# Altium integrated library TI Data Converters Digital to Analog Converter.IntLib: 1533 symbols (part 9 of 99)
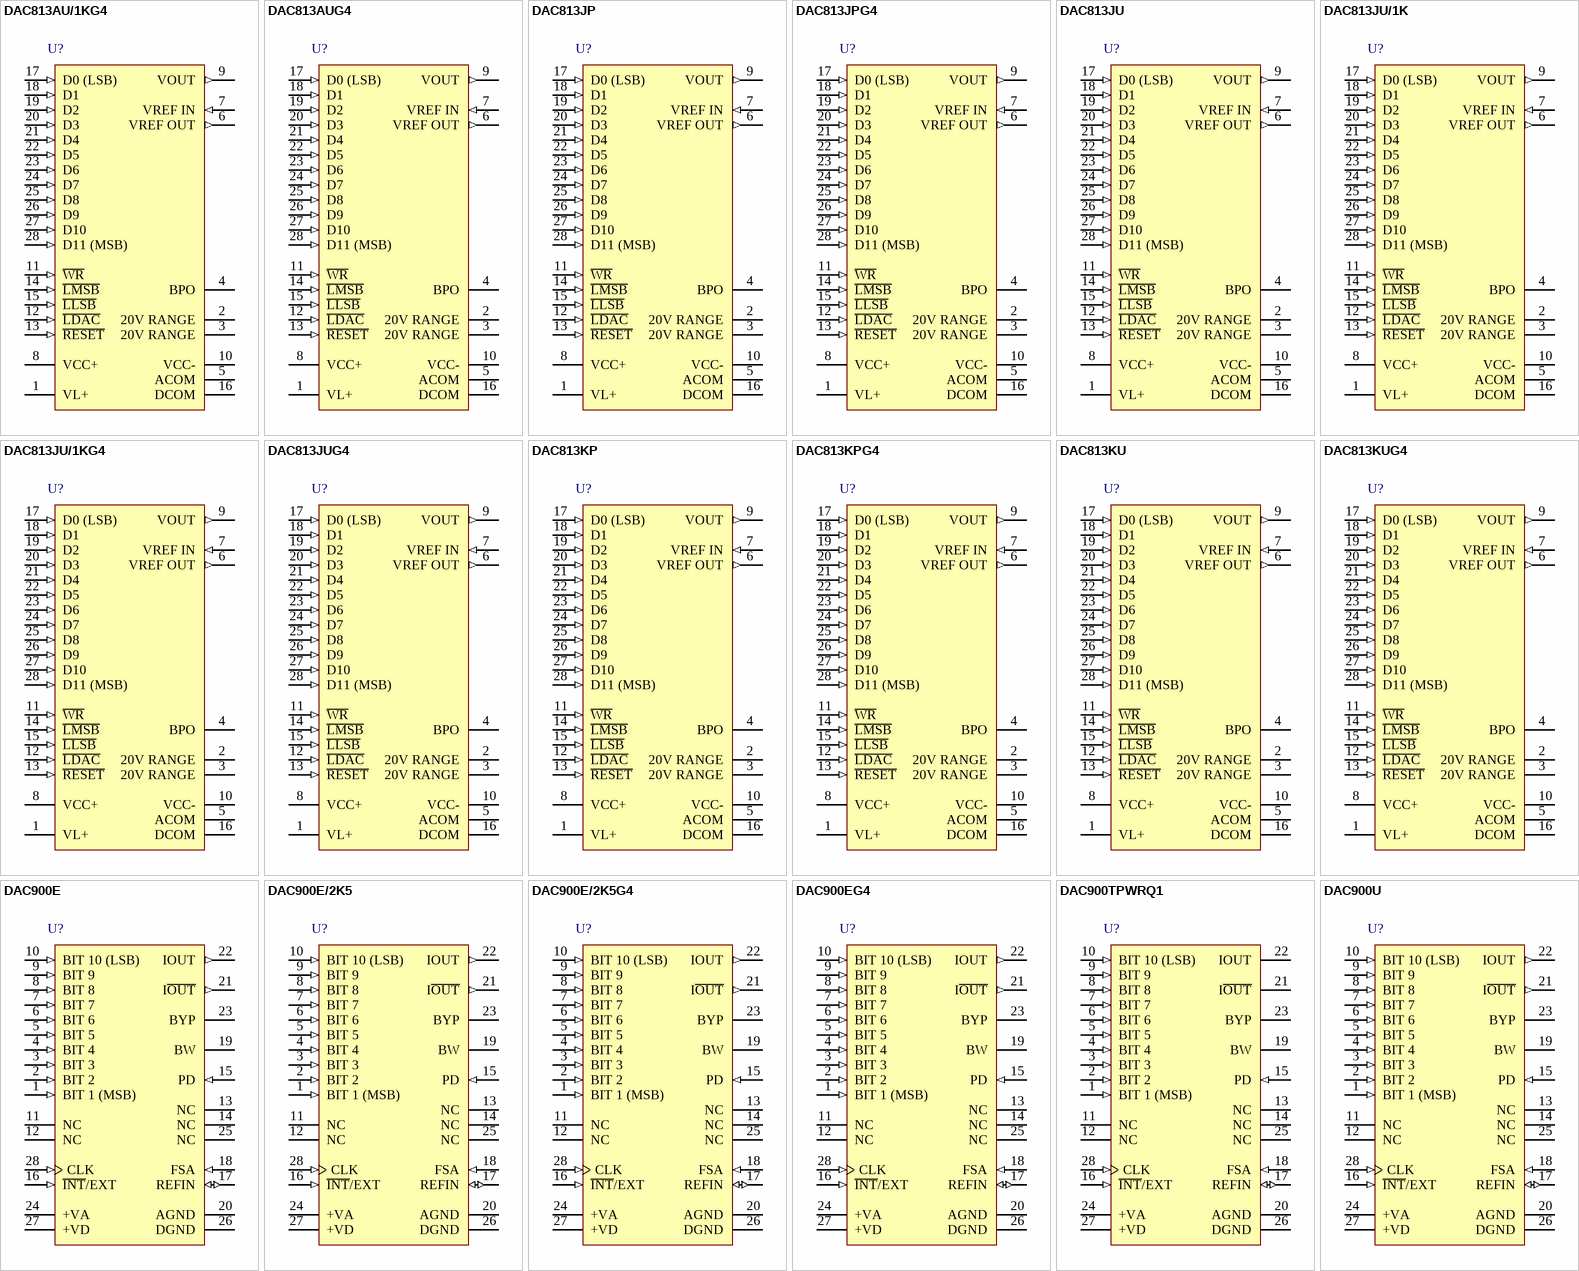
[diagram p81: symbols DAC813AU/1KG4 to DAC900U]

## DAC900U
designator U?
10-Bit, 165 MSPS SpeedPlus(TM) DAC Scalable Current Outputs between 2 to 20 mA, -40 to 85 degC, 28-pin SOIC (DW28), Green (RoHS & no Sb/Br); Manufacturer: Texas Instruments; PartNumber: DAC900U; DAC Channels: 1; DNL(Max)(+/-LSB): 0.5; Interface: Parallel CMOS; Power Consumption(Typ)(mW): 170; Resolution(Bits): 10; Settling Time(us): 0.03; SFDR(dB): 76; SubFamily: High Speed DAC (>10MSPS); DatasheetVersion: SBAS093B; PackageVersion: 4040000-6/G, 01/2011; PackageReference: DW28; PackageDescription: 28-Pin Plastic Small Outline, Body 17.90 x 7.50 mm, Pitch 1.27 mm; Supplier 1: Digi-Key; Supplier Part Number 1: DAC900U-ND; Supplier 2: Farnell; Supplier Part Number 2: 1247009; Supplier 3: Mouser; Supplier Part Number 3: 595-DAC900U; Eco-Plan: Green (RoHS & no Sb/Br); INL(Max)(+/-LSB): 1; Mounting Technology: Surface Mount; Code_JEDEC: MS-013; ComponentLink1Description: Manufacturer URL; ComponentLink1URL: http://www.ti.com/; ComponentLink2Description: Datasheet; ComponentLink2URL: http://www.ti.com/general/docs/lit/getliterature.tsp?genericPartNumber=DAC900&fileType=pdf; ComponentLink3Description: Package Specification; ComponentLink3URL: http://www.ti.com/lit/ml/mpds175a/mpds175a.pdf
footprint TI-DW28_N (SOIC, 28-Leads, Body 17.9x7.5mm, Pitch 1.27mm, IPC Medium Density)
footprint TI-DW28_L (SOIC, 28-Leads, Body 17.9x7.5mm, Pitch 1.27mm, IPC High Density)
footprint TI-DW28_M (SOIC, 28-Leads, Body 17.9x7.5mm, Pitch 1.27mm, IPC Low Density)
pins: 1 BIT 1 (MSB) (in) "Data Bit 1 (D9), MSB", 2 BIT 2 (in) "Data Bit 2 (D8)", 3 BIT 3 (in) "Data Bit 3 (D7)", 4 BIT 4 (in) "Data Bit 4 (D6)", 5 BIT 5 (in) "Data Bit 5 (D5)", 6 BIT 6 (in) "Data Bit 6 (D4)", 7 BIT 7 (in) "Data Bit 7 (D3)", 8 BIT 8 (in) "Data Bit 8 (D2)", 9 BIT 9 (in) "Data Bit 9 (D1)", 10 BIT 10 (LSB) (in) "Data Bit 10 (D0), LSB", 11 NC "No Connection", 12 NC "No Connection", 13 NC "No Connection", 14 NC "No Connection", 15 PD (in) "Power Down, Control Input; Active HIGH. Contains internal pull-down circuit; may be left unconnected if not used.", 16 ~{INT}/EXT (in) "Reference Select Pin; Internal ( = 0) or External ( = 1) Reference Operation.", 17 REFIN (io) "Reference Input/Ouput. See Applications section for further details.", 18 FSA (in) "Full-Scale Output Adjust", 19 BW "Bandwidth/Noise Reduction Pin: Bypass with 0.1uF to +VA  for Optimum Performance.", 20 AGND (power) "Analog Ground", 21 I~{OUT} (out) "Complementary DAC Current Output", 22 IOUT (out) "DAC Current Output", 23 BYP "Bypass Node: Use 0.1uF to AGND", 24 +VA (power) "Analog Supply Voltage, 2.7V to 5.5V", 25 NC "No Connection", 26 DGND (power) "Digital Ground", 27 +VD (power) "Digital Supply Voltage, 2.7V to 5.5V", 28 CLK (in) "Clock Input"

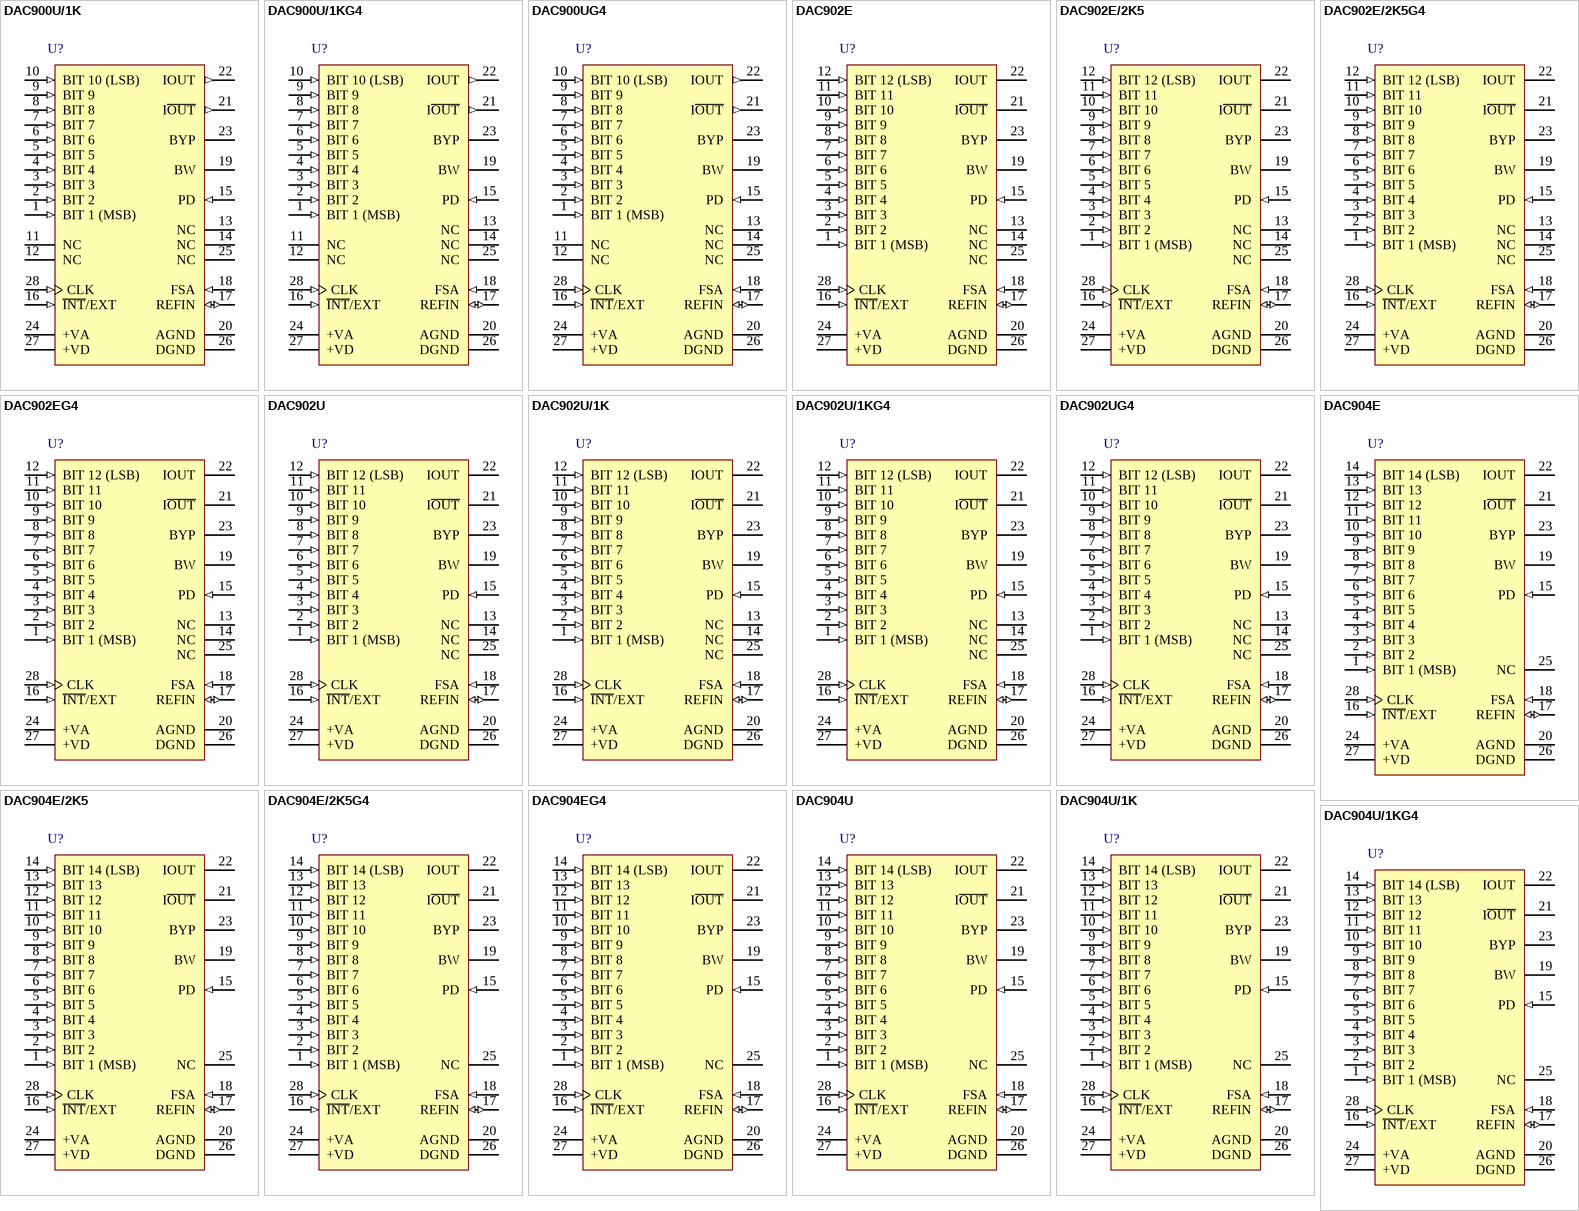
[diagram p7: symbols DAC900U/1K to DAC904U/1KG4]

## DAC900U/1K
designator U?
10-Bit, 165 MSPS SpeedPlus(TM) DAC Scalable Current Outputs between 2 to 20 mA, -40 to 85 degC, 28-pin SOIC (DW28), Green (RoHS & no Sb/Br); Manufacturer: Texas Instruments; PartNumber: DAC900U/1K; DAC Channels: 1; DNL(Max)(+/-LSB): 0.5; Interface: Parallel CMOS; Power Consumption(Typ)(mW): 170; Resolution(Bits): 10; Settling Time(us): 0.03; SFDR(dB): 76; SubFamily: High Speed DAC (>10MSPS); DatasheetVersion: SBAS093B; PackageVersion: 4040000-6/G, 01/2011; PackageReference: DW28; PackageDescription: 28-Pin Plastic Small Outline, Body 17.90 x 7.50 mm, Pitch 1.27 mm; Supplier 1: Digi-Key; Supplier Part Number 1: DAC900U/1K-ND; Supplier 2: Mouser; Supplier Part Number 2: 595-DAC900U/1K; Eco-Plan: Green (RoHS & no Sb/Br); INL(Max)(+/-LSB): 1; Mounting Technology: Surface Mount; Code_JEDEC: MS-013; ComponentLink1Description: Manufacturer URL; ComponentLink1URL: http://www.ti.com/; ComponentLink2Description: Datasheet; ComponentLink2URL: http://www.ti.com/general/docs/lit/getliterature.tsp?genericPartNumber=DAC900&fileType=pdf; ComponentLink3Description: Package Specification; ComponentLink3URL: http://www.ti.com/lit/ml/mpds175a/mpds175a.pdf
footprint TI-DW28_N (SOIC, 28-Leads, Body 17.9x7.5mm, Pitch 1.27mm, IPC Medium Density)
footprint TI-DW28_L (SOIC, 28-Leads, Body 17.9x7.5mm, Pitch 1.27mm, IPC High Density)
footprint TI-DW28_M (SOIC, 28-Leads, Body 17.9x7.5mm, Pitch 1.27mm, IPC Low Density)
pins: 1 BIT 1 (MSB) (in) "Data Bit 1 (D9), MSB", 2 BIT 2 (in) "Data Bit 2 (D8)", 3 BIT 3 (in) "Data Bit 3 (D7)", 4 BIT 4 (in) "Data Bit 4 (D6)", 5 BIT 5 (in) "Data Bit 5 (D5)", 6 BIT 6 (in) "Data Bit 6 (D4)", 7 BIT 7 (in) "Data Bit 7 (D3)", 8 BIT 8 (in) "Data Bit 8 (D2)", 9 BIT 9 (in) "Data Bit 9 (D1)", 10 BIT 10 (LSB) (in) "Data Bit 10 (D0), LSB", 11 NC "No Connection", 12 NC "No Connection", 13 NC "No Connection", 14 NC "No Connection", 15 PD (in) "Power Down, Control Input; Active HIGH. Contains internal pull-down circuit; may be left unconnected if not used.", 16 ~{INT}/EXT (in) "Reference Select Pin; Internal ( = 0) or External ( = 1) Reference Operation.", 17 REFIN (io) "Reference Input/Ouput. See Applications section for further details.", 18 FSA (in) "Full-Scale Output Adjust", 19 BW "Bandwidth/Noise Reduction Pin: Bypass with 0.1uF to +VA  for Optimum Performance.", 20 AGND (power) "Analog Ground", 21 I~{OUT} (out) "Complementary DAC Current Output", 22 IOUT (out) "DAC Current Output", 23 BYP "Bypass Node: Use 0.1uF to AGND", 24 +VA (power) "Analog Supply Voltage, 2.7V to 5.5V", 25 NC "No Connection", 26 DGND (power) "Digital Ground", 27 +VD (power) "Digital Supply Voltage, 2.7V to 5.5V", 28 CLK (in) "Clock Input"

## DAC900U/1KG4
designator U?
10-Bit, 165 MSPS SpeedPlus(TM) DAC Scalable Current Outputs between 2 to 20 mA, -40 to 85 degC, 28-pin SOIC (DW28), Green (RoHS & no Sb/Br); Manufacturer: Texas Instruments; PartNumber: DAC900U/1KG4; DAC Channels: 1; DNL(Max)(+/-LSB): 0.5; Interface: Parallel CMOS; Power Consumption(Typ)(mW): 170; Resolution(Bits): 10; Settling Time(us): 0.03; SFDR(dB): 76; SubFamily: High Speed DAC (>10MSPS); DatasheetVersion: SBAS093B; PackageVersion: 4040000-6/G, 01/2011; PackageReference: DW28; PackageDescription: 28-Pin Plastic Small Outline, Body 17.90 x 7.50 mm, Pitch 1.27 mm; Supplier 1: Digi-Key; Supplier Part Number 1: DAC900U/1KG4-ND; Supplier 2: Mouser; Supplier Part Number 2: 595-DAC900U/1KG4; Eco-Plan: Green (RoHS & no Sb/Br); INL(Max)(+/-LSB): 1; Mounting Technology: Surface Mount; Code_JEDEC: MS-013; ComponentLink1Description: Manufacturer URL; ComponentLink1URL: http://www.ti.com/; ComponentLink2Description: Datasheet; ComponentLink2URL: http://www.ti.com/general/docs/lit/getliterature.tsp?genericPartNumber=DAC900&fileType=pdf; ComponentLink3Description: Package Specification; ComponentLink3URL: http://www.ti.com/lit/ml/mpds175a/mpds175a.pdf
footprint TI-DW28_N (SOIC, 28-Leads, Body 17.9x7.5mm, Pitch 1.27mm, IPC Medium Density)
footprint TI-DW28_L (SOIC, 28-Leads, Body 17.9x7.5mm, Pitch 1.27mm, IPC High Density)
footprint TI-DW28_M (SOIC, 28-Leads, Body 17.9x7.5mm, Pitch 1.27mm, IPC Low Density)
pins: 1 BIT 1 (MSB) (in) "Data Bit 1 (D9), MSB", 2 BIT 2 (in) "Data Bit 2 (D8)", 3 BIT 3 (in) "Data Bit 3 (D7)", 4 BIT 4 (in) "Data Bit 4 (D6)", 5 BIT 5 (in) "Data Bit 5 (D5)", 6 BIT 6 (in) "Data Bit 6 (D4)", 7 BIT 7 (in) "Data Bit 7 (D3)", 8 BIT 8 (in) "Data Bit 8 (D2)", 9 BIT 9 (in) "Data Bit 9 (D1)", 10 BIT 10 (LSB) (in) "Data Bit 10 (D0), LSB", 11 NC "No Connection", 12 NC "No Connection", 13 NC "No Connection", 14 NC "No Connection", 15 PD (in) "Power Down, Control Input; Active HIGH. Contains internal pull-down circuit; may be left unconnected if not used.", 16 ~{INT}/EXT (in) "Reference Select Pin; Internal ( = 0) or External ( = 1) Reference Operation.", 17 REFIN (io) "Reference Input/Ouput. See Applications section for further details.", 18 FSA (in) "Full-Scale Output Adjust", 19 BW "Bandwidth/Noise Reduction Pin: Bypass with 0.1uF to +VA  for Optimum Performance.", 20 AGND (power) "Analog Ground", 21 I~{OUT} (out) "Complementary DAC Current Output", 22 IOUT (out) "DAC Current Output", 23 BYP "Bypass Node: Use 0.1uF to AGND", 24 +VA (power) "Analog Supply Voltage, 2.7V to 5.5V", 25 NC "No Connection", 26 DGND (power) "Digital Ground", 27 +VD (power) "Digital Supply Voltage, 2.7V to 5.5V", 28 CLK (in) "Clock Input"

## DAC900UG4
designator U?
10-Bit, 165 MSPS SpeedPlus(TM) DAC Scalable Current Outputs between 2 to 20 mA, -40 to 85 degC, 28-pin SOIC (DW28), Green (RoHS & no Sb/Br); Manufacturer: Texas Instruments; PartNumber: DAC900UG4; DAC Channels: 1; DNL(Max)(+/-LSB): 0.5; Interface: Parallel CMOS; Power Consumption(Typ)(mW): 170; Resolution(Bits): 10; Settling Time(us): 0.03; SFDR(dB): 76; SubFamily: High Speed DAC (>10MSPS); DatasheetVersion: SBAS093B; PackageVersion: 4040000-6/G, 01/2011; PackageReference: DW28; PackageDescription: 28-Pin Plastic Small Outline, Body 17.90 x 7.50 mm, Pitch 1.27 mm; Supplier 1: Digi-Key; Supplier Part Number 1: DAC900UG4-ND; Supplier 2: Mouser; Supplier Part Number 2: 595-DAC900UG4; Eco-Plan: Green (RoHS & no Sb/Br); INL(Max)(+/-LSB): 1; Mounting Technology: Surface Mount; Code_JEDEC: MS-013; ComponentLink1Description: Manufacturer URL; ComponentLink1URL: http://www.ti.com/; ComponentLink2Description: Datasheet; ComponentLink2URL: http://www.ti.com/general/docs/lit/getliterature.tsp?genericPartNumber=DAC900&fileType=pdf; ComponentLink3Description: Package Specification; ComponentLink3URL: http://www.ti.com/lit/ml/mpds175a/mpds175a.pdf
footprint TI-DW28_N (SOIC, 28-Leads, Body 17.9x7.5mm, Pitch 1.27mm, IPC Medium Density)
footprint TI-DW28_L (SOIC, 28-Leads, Body 17.9x7.5mm, Pitch 1.27mm, IPC High Density)
footprint TI-DW28_M (SOIC, 28-Leads, Body 17.9x7.5mm, Pitch 1.27mm, IPC Low Density)
pins: 1 BIT 1 (MSB) (in) "Data Bit 1 (D9), MSB", 2 BIT 2 (in) "Data Bit 2 (D8)", 3 BIT 3 (in) "Data Bit 3 (D7)", 4 BIT 4 (in) "Data Bit 4 (D6)", 5 BIT 5 (in) "Data Bit 5 (D5)", 6 BIT 6 (in) "Data Bit 6 (D4)", 7 BIT 7 (in) "Data Bit 7 (D3)", 8 BIT 8 (in) "Data Bit 8 (D2)", 9 BIT 9 (in) "Data Bit 9 (D1)", 10 BIT 10 (LSB) (in) "Data Bit 10 (D0), LSB", 11 NC "No Connection", 12 NC "No Connection", 13 NC "No Connection", 14 NC "No Connection", 15 PD (in) "Power Down, Control Input; Active HIGH. Contains internal pull-down circuit; may be left unconnected if not used.", 16 ~{INT}/EXT (in) "Reference Select Pin; Internal ( = 0) or External ( = 1) Reference Operation.", 17 REFIN (io) "Reference Input/Ouput. See Applications section for further details.", 18 FSA (in) "Full-Scale Output Adjust", 19 BW "Bandwidth/Noise Reduction Pin: Bypass with 0.1uF to +VA  for Optimum Performance.", 20 AGND (power) "Analog Ground", 21 I~{OUT} (out) "Complementary DAC Current Output", 22 IOUT (out) "DAC Current Output", 23 BYP "Bypass Node: Use 0.1uF to AGND", 24 +VA (power) "Analog Supply Voltage, 2.7V to 5.5V", 25 NC "No Connection", 26 DGND (power) "Digital Ground", 27 +VD (power) "Digital Supply Voltage, 2.7V to 5.5V", 28 CLK (in) "Clock Input"

## DAC902E
designator U?
12-Bit, 165 MSPS SpeedPlus(TM) DAC Scalable Current Outputs between 2 to 20 mA, -40 to 85 degC, 28-pin SOP (PW28), Green (RoHS & no Sb/Br); Manufacturer: Texas Instruments; PartNumber: DAC902E; DAC Channels: 1; DNL(Max)(+/-LSB): 1.75; INL(Max)(+/-LSB): 2.5; Interface: Parallel CMOS; Power Consumption(Typ)(mW): 170; Resolution(Bits): 12; Settling Time(us): 0.03; SFDR(dB): 75; SubFamily: High Speed DAC (>10MSPS); DatasheetVersion: SBAS094B; PackageVersion: 4040064-7/G, 02/2011; PackageReference: PW28; PackageDescription: 28-Pin Plastic Small Outline, Body 9.7 x 4.4 mm, Pitch 0.65 mm; Supplier 1: Digi-Key; Supplier Part Number 1: DAC902E-ND; Supplier 2: Newark; Supplier Part Number 2: 35C1668; Supplier 3: Mouser; Supplier Part Number 3: 595-DAC902E; Eco-Plan: Green (RoHS & no Sb/Br); Mounting Technology: Surface Mount; Code_JEDEC: MO-153; ComponentLink1Description: Manufacturer URL; ComponentLink1URL: http://www.ti.com/; ComponentLink2Description: Datasheet; ComponentLink2URL: http://www.ti.com/general/docs/lit/getliterature.tsp?genericPartNumber=DAC902&fileType=pdf; ComponentLink3Description: Package Specification; ComponentLink3URL: http://www.ti.com/litv/pdf/mpds364
footprint TI-PW28_N (SOP, 28-Leads, Body 9.7x4.4mm, Pitch 0.65mm, IPC Medium Density)
footprint TI-PW28_L (SOP, 28-Leads, Body 9.7x4.4mm, Pitch 0.65mm, IPC High Density)
footprint TI-PW28_M (SOP, 28-Leads, Body 9.7x4.4mm, Pitch 0.65mm, IPC Low Density)
pins: 1 BIT 1 (MSB) (in) "Data Bit 1 (D11), MSB", 2 BIT 2 (in) "Data Bit 2 (D10)", 3 BIT 3 (in) "Data Bit 3 (D9)", 4 BIT 4 (in) "Data Bit 4 (D8)", 5 BIT 5 (in) "Data Bit 5 (D7)", 6 BIT 6 (in) "Data Bit 6 (D6)", 7 BIT 7 (in) "Data Bit 7 (D5)", 8 BIT 8 (in) "Data Bit 8 (D4)", 9 BIT 9 (in) "Data Bit 9 (D3)", 10 BIT 10 (in) "Data Bit 10 (D2)", 11 BIT 11 (in) "Data Bit 11 (D1)", 12 BIT 12 (LSB) (in) "Data Bit 12 (D0), LSB", 13 NC "No Connection", 14 NC "No Connection", 15 PD (in) "Power Down, Control Input; Active HIGH. Contains internal pull-down circuit; may be left unconnected if not used.", 16 ~{INT}/EXT (in) "Reference Select Pin; Internal ( = 0) or External ( = 1) Reference Operation.", 17 REFIN (io) "Reference Input/Ouput. See Applications section for further details.", 18 FSA (in) "Full-Scale Output Adjust", 19 BW "Bandwidth/Noise Reduction Pin: Bypass with 0.1uF to +VA for Optimum Performance.", 20 AGND (power) "Analog Ground", 21 I~{OUT} (hiz) "Complementary DAC Current Output", 22 IOUT (hiz) "DAC Current Output", 23 BYP "Bypass Node: Use 0.1uF to AGND", 24 +VA (power) "Analog Supply Voltage, 2.7V to 5.5V", 25 NC "No Connection", 26 DGND (power) "Digital Ground", 27 +VD (power) "Digital Supply Voltage, 2.7V to 5.5V", 28 CLK (in) "Clock Input"

## DAC902E/2K5
designator U?
12-Bit, 165 MSPS SpeedPlus(TM) DAC Scalable Current Outputs between 2 to 20 mA, -40 to 85 degC, 28-pin SOP (PW28), Green (RoHS & no Sb/Br); Manufacturer: Texas Instruments; PartNumber: DAC902E/2K5; DAC Channels: 1; DNL(Max)(+/-LSB): 1.75; INL(Max)(+/-LSB): 2.5; Interface: Parallel CMOS; Power Consumption(Typ)(mW): 170; Resolution(Bits): 12; Settling Time(us): 0.03; SFDR(dB): 75; SubFamily: High Speed DAC (>10MSPS); DatasheetVersion: SBAS094B; PackageVersion: 4040064-7/G, 02/2011; PackageReference: PW28; PackageDescription: 28-Pin Plastic Small Outline, Body 9.7 x 4.4 mm, Pitch 0.65 mm; Supplier 1: Digi-Key; Supplier Part Number 1: DAC902E/2K5-ND; Supplier 2: Mouser; Supplier Part Number 2: 595-DAC902E/2K5; Eco-Plan: Green (RoHS & no Sb/Br); Mounting Technology: Surface Mount; Code_JEDEC: MO-153; ComponentLink1Description: Manufacturer URL; ComponentLink1URL: http://www.ti.com/; ComponentLink2Description: Datasheet; ComponentLink2URL: http://www.ti.com/general/docs/lit/getliterature.tsp?genericPartNumber=DAC902&fileType=pdf; ComponentLink3Description: Package Specification; ComponentLink3URL: http://www.ti.com/litv/pdf/mpds364
footprint TI-PW28_N (SOP, 28-Leads, Body 9.7x4.4mm, Pitch 0.65mm, IPC Medium Density)
footprint TI-PW28_L (SOP, 28-Leads, Body 9.7x4.4mm, Pitch 0.65mm, IPC High Density)
footprint TI-PW28_M (SOP, 28-Leads, Body 9.7x4.4mm, Pitch 0.65mm, IPC Low Density)
pins: 1 BIT 1 (MSB) (in) "Data Bit 1 (D11), MSB", 2 BIT 2 (in) "Data Bit 2 (D10)", 3 BIT 3 (in) "Data Bit 3 (D9)", 4 BIT 4 (in) "Data Bit 4 (D8)", 5 BIT 5 (in) "Data Bit 5 (D7)", 6 BIT 6 (in) "Data Bit 6 (D6)", 7 BIT 7 (in) "Data Bit 7 (D5)", 8 BIT 8 (in) "Data Bit 8 (D4)", 9 BIT 9 (in) "Data Bit 9 (D3)", 10 BIT 10 (in) "Data Bit 10 (D2)", 11 BIT 11 (in) "Data Bit 11 (D1)", 12 BIT 12 (LSB) (in) "Data Bit 12 (D0), LSB", 13 NC "No Connection", 14 NC "No Connection", 15 PD (in) "Power Down, Control Input; Active HIGH. Contains internal pull-down circuit; may be left unconnected if not used.", 16 ~{INT}/EXT (in) "Reference Select Pin; Internal ( = 0) or External ( = 1) Reference Operation.", 17 REFIN (io) "Reference Input/Ouput. See Applications section for further details.", 18 FSA (in) "Full-Scale Output Adjust", 19 BW "Bandwidth/Noise Reduction Pin: Bypass with 0.1uF to +VA for Optimum Performance.", 20 AGND (power) "Analog Ground", 21 I~{OUT} (hiz) "Complementary DAC Current Output", 22 IOUT (hiz) "DAC Current Output", 23 BYP "Bypass Node: Use 0.1uF to AGND", 24 +VA (power) "Analog Supply Voltage, 2.7V to 5.5V", 25 NC "No Connection", 26 DGND (power) "Digital Ground", 27 +VD (power) "Digital Supply Voltage, 2.7V to 5.5V", 28 CLK (in) "Clock Input"

## DAC902E/2K5G4
designator U?
12-Bit, 165 MSPS SpeedPlus(TM) DAC Scalable Current Outputs between 2 to 20 mA, -40 to 85 degC, 28-pin SOP (PW28), Green (RoHS & no Sb/Br); Manufacturer: Texas Instruments; PartNumber: DAC902E/2K5G4; DAC Channels: 1; DNL(Max)(+/-LSB): 1.75; INL(Max)(+/-LSB): 2.5; Interface: Parallel CMOS; Power Consumption(Typ)(mW): 170; Resolution(Bits): 12; Settling Time(us): 0.03; SFDR(dB): 75; SubFamily: High Speed DAC (>10MSPS); DatasheetVersion: SBAS094B; PackageVersion: 4040064-7/G, 02/2011; PackageReference: PW28; PackageDescription: 28-Pin Plastic Small Outline, Body 9.7 x 4.4 mm, Pitch 0.65 mm; Supplier 1: Digi-Key; Supplier Part Number 1: DAC902E/2K5G4-ND; Supplier 2: Mouser; Supplier Part Number 2: 595-DAC902E/2K5G4; Eco-Plan: Green (RoHS & no Sb/Br); Mounting Technology: Surface Mount; Code_JEDEC: MO-153; ComponentLink1Description: Manufacturer URL; ComponentLink1URL: http://www.ti.com/; ComponentLink2Description: Datasheet; ComponentLink2URL: http://www.ti.com/general/docs/lit/getliterature.tsp?genericPartNumber=DAC902&fileType=pdf; ComponentLink3Description: Package Specification; ComponentLink3URL: http://www.ti.com/litv/pdf/mpds364
footprint TI-PW28_N (SOP, 28-Leads, Body 9.7x4.4mm, Pitch 0.65mm, IPC Medium Density)
footprint TI-PW28_L (SOP, 28-Leads, Body 9.7x4.4mm, Pitch 0.65mm, IPC High Density)
footprint TI-PW28_M (SOP, 28-Leads, Body 9.7x4.4mm, Pitch 0.65mm, IPC Low Density)
pins: 1 BIT 1 (MSB) (in) "Data Bit 1 (D11), MSB", 2 BIT 2 (in) "Data Bit 2 (D10)", 3 BIT 3 (in) "Data Bit 3 (D9)", 4 BIT 4 (in) "Data Bit 4 (D8)", 5 BIT 5 (in) "Data Bit 5 (D7)", 6 BIT 6 (in) "Data Bit 6 (D6)", 7 BIT 7 (in) "Data Bit 7 (D5)", 8 BIT 8 (in) "Data Bit 8 (D4)", 9 BIT 9 (in) "Data Bit 9 (D3)", 10 BIT 10 (in) "Data Bit 10 (D2)", 11 BIT 11 (in) "Data Bit 11 (D1)", 12 BIT 12 (LSB) (in) "Data Bit 12 (D0), LSB", 13 NC "No Connection", 14 NC "No Connection", 15 PD (in) "Power Down, Control Input; Active HIGH. Contains internal pull-down circuit; may be left unconnected if not used.", 16 ~{INT}/EXT (in) "Reference Select Pin; Internal ( = 0) or External ( = 1) Reference Operation.", 17 REFIN (io) "Reference Input/Ouput. See Applications section for further details.", 18 FSA (in) "Full-Scale Output Adjust", 19 BW "Bandwidth/Noise Reduction Pin: Bypass with 0.1uF to +VA for Optimum Performance.", 20 AGND (power) "Analog Ground", 21 I~{OUT} (hiz) "Complementary DAC Current Output", 22 IOUT (hiz) "DAC Current Output", 23 BYP "Bypass Node: Use 0.1uF to AGND", 24 +VA (power) "Analog Supply Voltage, 2.7V to 5.5V", 25 NC "No Connection", 26 DGND (power) "Digital Ground", 27 +VD (power) "Digital Supply Voltage, 2.7V to 5.5V", 28 CLK (in) "Clock Input"

## DAC902EG4
designator U?
12-Bit, 165 MSPS SpeedPlus(TM) DAC Scalable Current Outputs between 2 to 20 mA, -40 to 85 degC, 28-pin SOP (PW28), Green (RoHS & no Sb/Br); Manufacturer: Texas Instruments; PartNumber: DAC902EG4; DAC Channels: 1; DNL(Max)(+/-LSB): 1.75; INL(Max)(+/-LSB): 2.5; Interface: Parallel CMOS; Power Consumption(Typ)(mW): 170; Resolution(Bits): 12; Settling Time(us): 0.03; SFDR(dB): 75; SubFamily: High Speed DAC (>10MSPS); DatasheetVersion: SBAS094B; PackageVersion: 4040064-7/G, 02/2011; PackageReference: PW28; PackageDescription: 28-Pin Plastic Small Outline, Body 9.7 x 4.4 mm, Pitch 0.65 mm; Supplier 1: Digi-Key; Supplier Part Number 1: DAC902EG4-ND; Supplier 2: Newark; Supplier Part Number 2: 24K4542; Supplier 3: Mouser; Supplier Part Number 3: 595-DAC902EG4; Eco-Plan: Green (RoHS & no Sb/Br); Mounting Technology: Surface Mount; Code_JEDEC: MO-153; ComponentLink1Description: Manufacturer URL; ComponentLink1URL: http://www.ti.com/; ComponentLink2Description: Datasheet; ComponentLink2URL: http://www.ti.com/general/docs/lit/getliterature.tsp?genericPartNumber=DAC902&fileType=pdf; ComponentLink3Description: Package Specification; ComponentLink3URL: http://www.ti.com/litv/pdf/mpds364
footprint TI-PW28_N (SOP, 28-Leads, Body 9.7x4.4mm, Pitch 0.65mm, IPC Medium Density)
footprint TI-PW28_L (SOP, 28-Leads, Body 9.7x4.4mm, Pitch 0.65mm, IPC High Density)
footprint TI-PW28_M (SOP, 28-Leads, Body 9.7x4.4mm, Pitch 0.65mm, IPC Low Density)
pins: 1 BIT 1 (MSB) (in) "Data Bit 1 (D11), MSB", 2 BIT 2 (in) "Data Bit 2 (D10)", 3 BIT 3 (in) "Data Bit 3 (D9)", 4 BIT 4 (in) "Data Bit 4 (D8)", 5 BIT 5 (in) "Data Bit 5 (D7)", 6 BIT 6 (in) "Data Bit 6 (D6)", 7 BIT 7 (in) "Data Bit 7 (D5)", 8 BIT 8 (in) "Data Bit 8 (D4)", 9 BIT 9 (in) "Data Bit 9 (D3)", 10 BIT 10 (in) "Data Bit 10 (D2)", 11 BIT 11 (in) "Data Bit 11 (D1)", 12 BIT 12 (LSB) (in) "Data Bit 12 (D0), LSB", 13 NC "No Connection", 14 NC "No Connection", 15 PD (in) "Power Down, Control Input; Active HIGH. Contains internal pull-down circuit; may be left unconnected if not used.", 16 ~{INT}/EXT (in) "Reference Select Pin; Internal ( = 0) or External ( = 1) Reference Operation.", 17 REFIN (io) "Reference Input/Ouput. See Applications section for further details.", 18 FSA (in) "Full-Scale Output Adjust", 19 BW "Bandwidth/Noise Reduction Pin: Bypass with 0.1uF to +VA for Optimum Performance.", 20 AGND (power) "Analog Ground", 21 I~{OUT} (hiz) "Complementary DAC Current Output", 22 IOUT (hiz) "DAC Current Output", 23 BYP "Bypass Node: Use 0.1uF to AGND", 24 +VA (power) "Analog Supply Voltage, 2.7V to 5.5V", 25 NC "No Connection", 26 DGND (power) "Digital Ground", 27 +VD (power) "Digital Supply Voltage, 2.7V to 5.5V", 28 CLK (in) "Clock Input"

## DAC902U
designator U?
12-Bit, 165 MSPS SpeedPlus(TM) DAC Scalable Current Outputs between 2 to 20 mA, -40 to 85 degC, 28-pin SOIC (DW28), Green (RoHS & no Sb/Br); Manufacturer: Texas Instruments; PartNumber: DAC902U; DAC Channels: 1; DNL(Max)(+/-LSB): 1.75; INL(Max)(+/-LSB): 2.5; Interface: Parallel CMOS; Power Consumption(Typ)(mW): 170; Resolution(Bits): 12; Settling Time(us): 0.03; SFDR(dB): 75; SubFamily: High Speed DAC (>10MSPS); DatasheetVersion: SBAS094B; PackageVersion: 4040000-6/G, 01/2011; PackageReference: DW28; PackageDescription: 28-Pin Plastic Small Outline, Body 17.90 x 7.50 mm, Pitch 1.27 mm; Supplier 1: Digi-Key; Supplier Part Number 1: DAC902U-ND; Supplier 2: Farnell; Supplier Part Number 2: 8466289; Supplier 3: Newark; Supplier Part Number 3: 14M8164; Supplier 4: Mouser; Supplier Part Number 4: 595-DAC902U; Eco-Plan: Green (RoHS & no Sb/Br); Mounting Technology: Surface Mount; Code_JEDEC: MS-013; ComponentLink1Description: Manufacturer URL; ComponentLink1URL: http://www.ti.com/; ComponentLink2Description: Datasheet; ComponentLink2URL: http://www.ti.com/general/docs/lit/getliterature.tsp?genericPartNumber=DAC902&fileType=pdf; ComponentLink3Description: Package Specification; ComponentLink3URL: http://www.ti.com/lit/ml/mpds175a/mpds175a.pdf
footprint TI-DW28_N (SOIC, 28-Leads, Body 17.9x7.5mm, Pitch 1.27mm, IPC Medium Density)
footprint TI-DW28_L (SOIC, 28-Leads, Body 17.9x7.5mm, Pitch 1.27mm, IPC High Density)
footprint TI-DW28_M (SOIC, 28-Leads, Body 17.9x7.5mm, Pitch 1.27mm, IPC Low Density)
pins: 1 BIT 1 (MSB) (in) "Data Bit 1 (D11), MSB", 2 BIT 2 (in) "Data Bit 2 (D10)", 3 BIT 3 (in) "Data Bit 3 (D9)", 4 BIT 4 (in) "Data Bit 4 (D8)", 5 BIT 5 (in) "Data Bit 5 (D7)", 6 BIT 6 (in) "Data Bit 6 (D6)", 7 BIT 7 (in) "Data Bit 7 (D5)", 8 BIT 8 (in) "Data Bit 8 (D4)", 9 BIT 9 (in) "Data Bit 9 (D3)", 10 BIT 10 (in) "Data Bit 10 (D2)", 11 BIT 11 (in) "Data Bit 11 (D1)", 12 BIT 12 (LSB) (in) "Data Bit 12 (D0), LSB", 13 NC "No Connection", 14 NC "No Connection", 15 PD (in) "Power Down, Control Input; Active HIGH. Contains internal pull-down circuit; may be left unconnected if not used.", 16 ~{INT}/EXT (in) "Reference Select Pin; Internal ( = 0) or External ( = 1) Reference Operation.", 17 REFIN (io) "Reference Input/Ouput. See Applications section for further details.", 18 FSA (in) "Full-Scale Output Adjust", 19 BW "Bandwidth/Noise Reduction Pin: Bypass with 0.1uF to +VA for Optimum Performance.", 20 AGND (power) "Analog Ground", 21 I~{OUT} (hiz) "Complementary DAC Current Output", 22 IOUT (hiz) "DAC Current Output", 23 BYP "Bypass Node: Use 0.1uF to AGND", 24 +VA (power) "Analog Supply Voltage, 2.7V to 5.5V", 25 NC "No Connection", 26 DGND (power) "Digital Ground", 27 +VD (power) "Digital Supply Voltage, 2.7V to 5.5V", 28 CLK (in) "Clock Input"

## DAC902U/1K
designator U?
12-Bit, 165 MSPS SpeedPlus(TM) DAC Scalable Current Outputs between 2 to 20 mA, -40 to 85 degC, 28-pin SOIC (DW28), Green (RoHS & no Sb/Br); Manufacturer: Texas Instruments; PartNumber: DAC902U/1K; DAC Channels: 1; DNL(Max)(+/-LSB): 1.75; INL(Max)(+/-LSB): 2.5; Interface: Parallel CMOS; Power Consumption(Typ)(mW): 170; Resolution(Bits): 12; Settling Time(us): 0.03; SFDR(dB): 75; SubFamily: High Speed DAC (>10MSPS); DatasheetVersion: SBAS094B; PackageVersion: 4040000-6/G, 01/2011; PackageReference: DW28; PackageDescription: 28-Pin Plastic Small Outline, Body 17.90 x 7.50 mm, Pitch 1.27 mm; Supplier 1: Digi-Key; Supplier Part Number 1: DAC902U/1K-ND; Supplier 2: Mouser; Supplier Part Number 2: 595-DAC902U/1K; Eco-Plan: Green (RoHS & no Sb/Br); Mounting Technology: Surface Mount; Code_JEDEC: MS-013; ComponentLink1Description: Manufacturer URL; ComponentLink1URL: http://www.ti.com/; ComponentLink2Description: Datasheet; ComponentLink2URL: http://www.ti.com/general/docs/lit/getliterature.tsp?genericPartNumber=DAC902&fileType=pdf; ComponentLink3Description: Package Specification; ComponentLink3URL: http://www.ti.com/lit/ml/mpds175a/mpds175a.pdf
footprint TI-DW28_N (SOIC, 28-Leads, Body 17.9x7.5mm, Pitch 1.27mm, IPC Medium Density)
footprint TI-DW28_L (SOIC, 28-Leads, Body 17.9x7.5mm, Pitch 1.27mm, IPC High Density)
footprint TI-DW28_M (SOIC, 28-Leads, Body 17.9x7.5mm, Pitch 1.27mm, IPC Low Density)
pins: 1 BIT 1 (MSB) (in) "Data Bit 1 (D11), MSB", 2 BIT 2 (in) "Data Bit 2 (D10)", 3 BIT 3 (in) "Data Bit 3 (D9)", 4 BIT 4 (in) "Data Bit 4 (D8)", 5 BIT 5 (in) "Data Bit 5 (D7)", 6 BIT 6 (in) "Data Bit 6 (D6)", 7 BIT 7 (in) "Data Bit 7 (D5)", 8 BIT 8 (in) "Data Bit 8 (D4)", 9 BIT 9 (in) "Data Bit 9 (D3)", 10 BIT 10 (in) "Data Bit 10 (D2)", 11 BIT 11 (in) "Data Bit 11 (D1)", 12 BIT 12 (LSB) (in) "Data Bit 12 (D0), LSB", 13 NC "No Connection", 14 NC "No Connection", 15 PD (in) "Power Down, Control Input; Active HIGH. Contains internal pull-down circuit; may be left unconnected if not used.", 16 ~{INT}/EXT (in) "Reference Select Pin; Internal ( = 0) or External ( = 1) Reference Operation.", 17 REFIN (io) "Reference Input/Ouput. See Applications section for further details.", 18 FSA (in) "Full-Scale Output Adjust", 19 BW "Bandwidth/Noise Reduction Pin: Bypass with 0.1uF to +VA for Optimum Performance.", 20 AGND (power) "Analog Ground", 21 I~{OUT} (hiz) "Complementary DAC Current Output", 22 IOUT (hiz) "DAC Current Output", 23 BYP "Bypass Node: Use 0.1uF to AGND", 24 +VA (power) "Analog Supply Voltage, 2.7V to 5.5V", 25 NC "No Connection", 26 DGND (power) "Digital Ground", 27 +VD (power) "Digital Supply Voltage, 2.7V to 5.5V", 28 CLK (in) "Clock Input"

## DAC902U/1KG4
designator U?
12-Bit, 165 MSPS SpeedPlus(TM) DAC Scalable Current Outputs between 2 to 20 mA, -40 to 85 degC, 28-pin SOIC (DW28), Green (RoHS & no Sb/Br); Manufacturer: Texas Instruments; PartNumber: DAC902U/1KG4; DAC Channels: 1; DNL(Max)(+/-LSB): 1.75; INL(Max)(+/-LSB): 2.5; Interface: Parallel CMOS; Power Consumption(Typ)(mW): 170; Resolution(Bits): 12; Settling Time(us): 0.03; SFDR(dB): 75; SubFamily: High Speed DAC (>10MSPS); DatasheetVersion: SBAS094B; PackageVersion: 4040000-6/G, 01/2011; PackageReference: DW28; PackageDescription: 28-Pin Plastic Small Outline, Body 17.90 x 7.50 mm, Pitch 1.27 mm; Supplier 1: Digi-Key; Supplier Part Number 1: DAC902U/1KG4-ND; Supplier 2: Mouser; Supplier Part Number 2: 595-DAC902U/1KG4; Eco-Plan: Green (RoHS & no Sb/Br); Mounting Technology: Surface Mount; Code_JEDEC: MS-013; ComponentLink1Description: Manufacturer URL; ComponentLink1URL: http://www.ti.com/; ComponentLink2Description: Datasheet; ComponentLink2URL: http://www.ti.com/general/docs/lit/getliterature.tsp?genericPartNumber=DAC902&fileType=pdf; ComponentLink3Description: Package Specification; ComponentLink3URL: http://www.ti.com/lit/ml/mpds175a/mpds175a.pdf
footprint TI-DW28_N (SOIC, 28-Leads, Body 17.9x7.5mm, Pitch 1.27mm, IPC Medium Density)
footprint TI-DW28_L (SOIC, 28-Leads, Body 17.9x7.5mm, Pitch 1.27mm, IPC High Density)
footprint TI-DW28_M (SOIC, 28-Leads, Body 17.9x7.5mm, Pitch 1.27mm, IPC Low Density)
pins: 1 BIT 1 (MSB) (in) "Data Bit 1 (D11), MSB", 2 BIT 2 (in) "Data Bit 2 (D10)", 3 BIT 3 (in) "Data Bit 3 (D9)", 4 BIT 4 (in) "Data Bit 4 (D8)", 5 BIT 5 (in) "Data Bit 5 (D7)", 6 BIT 6 (in) "Data Bit 6 (D6)", 7 BIT 7 (in) "Data Bit 7 (D5)", 8 BIT 8 (in) "Data Bit 8 (D4)", 9 BIT 9 (in) "Data Bit 9 (D3)", 10 BIT 10 (in) "Data Bit 10 (D2)", 11 BIT 11 (in) "Data Bit 11 (D1)", 12 BIT 12 (LSB) (in) "Data Bit 12 (D0), LSB", 13 NC "No Connection", 14 NC "No Connection", 15 PD (in) "Power Down, Control Input; Active HIGH. Contains internal pull-down circuit; may be left unconnected if not used.", 16 ~{INT}/EXT (in) "Reference Select Pin; Internal ( = 0) or External ( = 1) Reference Operation.", 17 REFIN (io) "Reference Input/Ouput. See Applications section for further details.", 18 FSA (in) "Full-Scale Output Adjust", 19 BW "Bandwidth/Noise Reduction Pin: Bypass with 0.1uF to +VA for Optimum Performance.", 20 AGND (power) "Analog Ground", 21 I~{OUT} (hiz) "Complementary DAC Current Output", 22 IOUT (hiz) "DAC Current Output", 23 BYP "Bypass Node: Use 0.1uF to AGND", 24 +VA (power) "Analog Supply Voltage, 2.7V to 5.5V", 25 NC "No Connection", 26 DGND (power) "Digital Ground", 27 +VD (power) "Digital Supply Voltage, 2.7V to 5.5V", 28 CLK (in) "Clock Input"

## DAC902UG4
designator U?
12-Bit, 165 MSPS SpeedPlus(TM) DAC Scalable Current Outputs between 2 to 20 mA, -40 to 85 degC, 28-pin SOIC (DW28), Green (RoHS & no Sb/Br); Manufacturer: Texas Instruments; PartNumber: DAC902UG4; DAC Channels: 1; DNL(Max)(+/-LSB): 1.75; INL(Max)(+/-LSB): 2.5; Interface: Parallel CMOS; Power Consumption(Typ)(mW): 170; Resolution(Bits): 12; Settling Time(us): 0.03; SFDR(dB): 75; SubFamily: High Speed DAC (>10MSPS); DatasheetVersion: SBAS094B; PackageVersion: 4040000-6/G, 01/2011; PackageReference: DW28; PackageDescription: 28-Pin Plastic Small Outline, Body 17.90 x 7.50 mm, Pitch 1.27 mm; Supplier 1: Digi-Key; Supplier Part Number 1: DAC902UG4-ND; Supplier 2: Mouser; Supplier Part Number 2: 595-DAC902UG4; Eco-Plan: Green (RoHS & no Sb/Br); Mounting Technology: Surface Mount; Code_JEDEC: MS-013; ComponentLink1Description: Manufacturer URL; ComponentLink1URL: http://www.ti.com/; ComponentLink2Description: Datasheet; ComponentLink2URL: http://www.ti.com/general/docs/lit/getliterature.tsp?genericPartNumber=DAC902&fileType=pdf; ComponentLink3Description: Package Specification; ComponentLink3URL: http://www.ti.com/lit/ml/mpds175a/mpds175a.pdf
footprint TI-DW28_N (SOIC, 28-Leads, Body 17.9x7.5mm, Pitch 1.27mm, IPC Medium Density)
footprint TI-DW28_L (SOIC, 28-Leads, Body 17.9x7.5mm, Pitch 1.27mm, IPC High Density)
footprint TI-DW28_M (SOIC, 28-Leads, Body 17.9x7.5mm, Pitch 1.27mm, IPC Low Density)
pins: 1 BIT 1 (MSB) (in) "Data Bit 1 (D11), MSB", 2 BIT 2 (in) "Data Bit 2 (D10)", 3 BIT 3 (in) "Data Bit 3 (D9)", 4 BIT 4 (in) "Data Bit 4 (D8)", 5 BIT 5 (in) "Data Bit 5 (D7)", 6 BIT 6 (in) "Data Bit 6 (D6)", 7 BIT 7 (in) "Data Bit 7 (D5)", 8 BIT 8 (in) "Data Bit 8 (D4)", 9 BIT 9 (in) "Data Bit 9 (D3)", 10 BIT 10 (in) "Data Bit 10 (D2)", 11 BIT 11 (in) "Data Bit 11 (D1)", 12 BIT 12 (LSB) (in) "Data Bit 12 (D0), LSB", 13 NC "No Connection", 14 NC "No Connection", 15 PD (in) "Power Down, Control Input; Active HIGH. Contains internal pull-down circuit; may be left unconnected if not used.", 16 ~{INT}/EXT (in) "Reference Select Pin; Internal ( = 0) or External ( = 1) Reference Operation.", 17 REFIN (io) "Reference Input/Ouput. See Applications section for further details.", 18 FSA (in) "Full-Scale Output Adjust", 19 BW "Bandwidth/Noise Reduction Pin: Bypass with 0.1uF to +VA for Optimum Performance.", 20 AGND (power) "Analog Ground", 21 I~{OUT} (hiz) "Complementary DAC Current Output", 22 IOUT (hiz) "DAC Current Output", 23 BYP "Bypass Node: Use 0.1uF to AGND", 24 +VA (power) "Analog Supply Voltage, 2.7V to 5.5V", 25 NC "No Connection", 26 DGND (power) "Digital Ground", 27 +VD (power) "Digital Supply Voltage, 2.7V to 5.5V", 28 CLK (in) "Clock Input"

## DAC904E
designator U?
14-Bit, 165 MSPS SpeedPlus(TM) DAC Scalable Current Outputs between 2 to 20 mA, -40 to 85 degC, 28-pin SOP (PW28), Green (RoHS & no Sb/Br); Manufacturer: Texas Instruments; PartNumber: DAC904E; DAC Channels: 1; Interface: Parallel CMOS; Power Consumption(Typ)(mW): 170; Resolution(Bits): 14; Settling Time(us): 0.03; SFDR(dB): 76; SubFamily: High Speed DAC (>10MSPS); DatasheetVersion: SBAS095C; PackageVersion: 4040064-7/G, 02/2011; PackageReference: PW28; PackageDescription: 28-Pin Plastic Small Outline, Body 9.7 x 4.4 mm, Pitch 0.65 mm; Supplier 1: Digi-Key; Supplier Part Number 1: DAC904E-ND; Supplier 2: Farnell; Supplier Part Number 2: 5011826; Supplier 3: Newark; Supplier Part Number 3: 72K8438; Supplier 4: Mouser; Supplier Part Number 4: 595-DAC904E; Eco-Plan: Green (RoHS & no Sb/Br); Mounting Technology: Surface Mount; Code_JEDEC: MO-153; ComponentLink1Description: Manufacturer URL; ComponentLink1URL: http://www.ti.com/; ComponentLink2Description: Datasheet; ComponentLink2URL: http://www.ti.com/general/docs/lit/getliterature.tsp?genericPartNumber=DAC904&fileType=pdf; ComponentLink3Description: Package Specification; ComponentLink3URL: http://www.ti.com/litv/pdf/mpds364
footprint TI-PW28_N (SOP, 28-Leads, Body 9.7x4.4mm, Pitch 0.65mm, IPC Medium Density)
footprint TI-PW28_L (SOP, 28-Leads, Body 9.7x4.4mm, Pitch 0.65mm, IPC High Density)
footprint TI-PW28_M (SOP, 28-Leads, Body 9.7x4.4mm, Pitch 0.65mm, IPC Low Density)
pins: 1 BIT 1 (MSB) (in) "Data Bit 1 (D13), MSB", 2 BIT 2 (in) "Data Bit 2 (D12)", 3 BIT 3 (in) "Data Bit 3 (D11)", 4 BIT 4 (in) "Data Bit 4 (D10)", 5 BIT 5 (in) "Data Bit 5 (D9)", 6 BIT 6 (in) "Data Bit 6 (D8)", 7 BIT 7 (in) "Data Bit 7 (D7)", 8 BIT 8 (in) "Data Bit 8 (D6)", 9 BIT 9 (in) "Data Bit 9 (D5)", 10 BIT 10 (in) "Data Bit 10 (D4)", 11 BIT 11 (in) "Data Bit 11 (D3)", 12 BIT 12 (in) "Data Bit 12 (D2)", 13 BIT 13 (in) "Data Bit 13 (D1)", 14 BIT 14 (LSB) (in) "Data Bit 14 (D0), LSB", 15 PD (in) "Power Down, Control Input; Active HIGH. Contains internal pull-down circuit; may be left unconnected if not used.", 16 ~{INT}/EXT (in) "Reference Select Pin; Internal ( = 0) or External ( = 1) Reference Operation", 17 REFIN (io) "Reference Input/Ouput. See Applications section for further details.", 18 FSA (in) "Full-Scale Output Adjust", 19 BW "Bandwidth/Noise Reduction Pin: Bypass with 0.1uF to +VA for Optimum Performance. (Optional)", 20 AGND (power) "Analog Ground", 21 I~{OUT} (hiz) "Complementary DAC Current Output", 22 IOUT (hiz) "DAC Current Output", 23 BYP "Bypass Node: Use 0.1uF to AGND", 24 +VA (power) "Analog Supply Voltage, 2.7V to 5.5V", 25 NC "No Internal Connection", 26 DGND (power) "Digital Ground", 27 +VD (power) "Digital Supply Voltage, 2.7V to 5.5V", 28 CLK (in) "Clock Input"

## DAC904E/2K5
designator U?
14-Bit, 165 MSPS SpeedPlus(TM) DAC Scalable Current Outputs between 2 to 20 mA, -40 to 85 degC, 28-pin SOP (PW28), Green (RoHS & no Sb/Br); Manufacturer: Texas Instruments; PartNumber: DAC904E/2K5; DAC Channels: 1; Interface: Parallel CMOS; Power Consumption(Typ)(mW): 170; Resolution(Bits): 14; Settling Time(us): 0.03; SFDR(dB): 76; SubFamily: High Speed DAC (>10MSPS); DatasheetVersion: SBAS095C; PackageVersion: 4040064-7/G, 02/2011; PackageReference: PW28; PackageDescription: 28-Pin Plastic Small Outline, Body 9.7 x 4.4 mm, Pitch 0.65 mm; Supplier 1: Digi-Key; Supplier Part Number 1: DAC904E/2K5-ND; Supplier 2: Newark; Supplier Part Number 2: 74C9311; Supplier 3: Mouser; Supplier Part Number 3: 595-DAC904E/2K5; Eco-Plan: Green (RoHS & no Sb/Br); Mounting Technology: Surface Mount; Code_JEDEC: MO-153; ComponentLink1Description: Manufacturer URL; ComponentLink1URL: http://www.ti.com/; ComponentLink2Description: Datasheet; ComponentLink2URL: http://www.ti.com/general/docs/lit/getliterature.tsp?genericPartNumber=DAC904&fileType=pdf; ComponentLink3Description: Package Specification; ComponentLink3URL: http://www.ti.com/litv/pdf/mpds364
footprint TI-PW28_N (SOP, 28-Leads, Body 9.7x4.4mm, Pitch 0.65mm, IPC Medium Density)
footprint TI-PW28_L (SOP, 28-Leads, Body 9.7x4.4mm, Pitch 0.65mm, IPC High Density)
footprint TI-PW28_M (SOP, 28-Leads, Body 9.7x4.4mm, Pitch 0.65mm, IPC Low Density)
pins: 1 BIT 1 (MSB) (in) "Data Bit 1 (D13), MSB", 2 BIT 2 (in) "Data Bit 2 (D12)", 3 BIT 3 (in) "Data Bit 3 (D11)", 4 BIT 4 (in) "Data Bit 4 (D10)", 5 BIT 5 (in) "Data Bit 5 (D9)", 6 BIT 6 (in) "Data Bit 6 (D8)", 7 BIT 7 (in) "Data Bit 7 (D7)", 8 BIT 8 (in) "Data Bit 8 (D6)", 9 BIT 9 (in) "Data Bit 9 (D5)", 10 BIT 10 (in) "Data Bit 10 (D4)", 11 BIT 11 (in) "Data Bit 11 (D3)", 12 BIT 12 (in) "Data Bit 12 (D2)", 13 BIT 13 (in) "Data Bit 13 (D1)", 14 BIT 14 (LSB) (in) "Data Bit 14 (D0), LSB", 15 PD (in) "Power Down, Control Input; Active HIGH. Contains internal pull-down circuit; may be left unconnected if not used.", 16 ~{INT}/EXT (in) "Reference Select Pin; Internal ( = 0) or External ( = 1) Reference Operation", 17 REFIN (io) "Reference Input/Ouput. See Applications section for further details.", 18 FSA (in) "Full-Scale Output Adjust", 19 BW "Bandwidth/Noise Reduction Pin: Bypass with 0.1uF to +VA for Optimum Performance. (Optional)", 20 AGND (power) "Analog Ground", 21 I~{OUT} (hiz) "Complementary DAC Current Output", 22 IOUT (hiz) "DAC Current Output", 23 BYP "Bypass Node: Use 0.1uF to AGND", 24 +VA (power) "Analog Supply Voltage, 2.7V to 5.5V", 25 NC "No Internal Connection", 26 DGND (power) "Digital Ground", 27 +VD (power) "Digital Supply Voltage, 2.7V to 5.5V", 28 CLK (in) "Clock Input"

## DAC904E/2K5G4
designator U?
14-Bit, 165 MSPS SpeedPlus(TM) DAC Scalable Current Outputs between 2 to 20 mA, -40 to 85 degC, 28-pin SOP (PW28), Green (RoHS & no Sb/Br); Manufacturer: Texas Instruments; PartNumber: DAC904E/2K5G4; DAC Channels: 1; Interface: Parallel CMOS; Power Consumption(Typ)(mW): 170; Resolution(Bits): 14; Settling Time(us): 0.03; SFDR(dB): 76; SubFamily: High Speed DAC (>10MSPS); DatasheetVersion: SBAS095C; PackageVersion: 4040064-7/G, 02/2011; PackageReference: PW28; PackageDescription: 28-Pin Plastic Small Outline, Body 9.7 x 4.4 mm, Pitch 0.65 mm; Supplier 1: Digi-Key; Supplier Part Number 1: DAC904E/2K5G4-ND; Supplier 2: Mouser; Supplier Part Number 2: 595-DAC904E/2K5G4; Eco-Plan: Green (RoHS & no Sb/Br); Mounting Technology: Surface Mount; Code_JEDEC: MO-153; ComponentLink1Description: Manufacturer URL; ComponentLink1URL: http://www.ti.com/; ComponentLink2Description: Datasheet; ComponentLink2URL: http://www.ti.com/general/docs/lit/getliterature.tsp?genericPartNumber=DAC904&fileType=pdf; ComponentLink3Description: Package Specification; ComponentLink3URL: http://www.ti.com/litv/pdf/mpds364
footprint TI-PW28_N (SOP, 28-Leads, Body 9.7x4.4mm, Pitch 0.65mm, IPC Medium Density)
footprint TI-PW28_L (SOP, 28-Leads, Body 9.7x4.4mm, Pitch 0.65mm, IPC High Density)
footprint TI-PW28_M (SOP, 28-Leads, Body 9.7x4.4mm, Pitch 0.65mm, IPC Low Density)
pins: 1 BIT 1 (MSB) (in) "Data Bit 1 (D13), MSB", 2 BIT 2 (in) "Data Bit 2 (D12)", 3 BIT 3 (in) "Data Bit 3 (D11)", 4 BIT 4 (in) "Data Bit 4 (D10)", 5 BIT 5 (in) "Data Bit 5 (D9)", 6 BIT 6 (in) "Data Bit 6 (D8)", 7 BIT 7 (in) "Data Bit 7 (D7)", 8 BIT 8 (in) "Data Bit 8 (D6)", 9 BIT 9 (in) "Data Bit 9 (D5)", 10 BIT 10 (in) "Data Bit 10 (D4)", 11 BIT 11 (in) "Data Bit 11 (D3)", 12 BIT 12 (in) "Data Bit 12 (D2)", 13 BIT 13 (in) "Data Bit 13 (D1)", 14 BIT 14 (LSB) (in) "Data Bit 14 (D0), LSB", 15 PD (in) "Power Down, Control Input; Active HIGH. Contains internal pull-down circuit; may be left unconnected if not used.", 16 ~{INT}/EXT (in) "Reference Select Pin; Internal ( = 0) or External ( = 1) Reference Operation", 17 REFIN (io) "Reference Input/Ouput. See Applications section for further details.", 18 FSA (in) "Full-Scale Output Adjust", 19 BW "Bandwidth/Noise Reduction Pin: Bypass with 0.1uF to +VA for Optimum Performance. (Optional)", 20 AGND (power) "Analog Ground", 21 I~{OUT} (hiz) "Complementary DAC Current Output", 22 IOUT (hiz) "DAC Current Output", 23 BYP "Bypass Node: Use 0.1uF to AGND", 24 +VA (power) "Analog Supply Voltage, 2.7V to 5.5V", 25 NC "No Internal Connection", 26 DGND (power) "Digital Ground", 27 +VD (power) "Digital Supply Voltage, 2.7V to 5.5V", 28 CLK (in) "Clock Input"

## DAC904EG4
designator U?
14-Bit, 165 MSPS SpeedPlus(TM) DAC Scalable Current Outputs between 2 to 20 mA, -40 to 85 degC, 28-pin SOP (PW28), Green (RoHS & no Sb/Br); Manufacturer: Texas Instruments; PartNumber: DAC904EG4; DAC Channels: 1; Interface: Parallel CMOS; Power Consumption(Typ)(mW): 170; Resolution(Bits): 14; Settling Time(us): 0.03; SFDR(dB): 76; SubFamily: High Speed DAC (>10MSPS); DatasheetVersion: SBAS095C; PackageVersion: 4040064-7/G, 02/2011; PackageReference: PW28; PackageDescription: 28-Pin Plastic Small Outline, Body 9.7 x 4.4 mm, Pitch 0.65 mm; Supplier 1: Digi-Key; Supplier Part Number 1: DAC904EG4-ND; Supplier 2: Farnell; Supplier Part Number 2: 1214430; Supplier 3: Newark; Supplier Part Number 3: 96K8428; Supplier 4: Mouser; Supplier Part Number 4: 595-DAC904EG4; Eco-Plan: Green (RoHS & no Sb/Br); Mounting Technology: Surface Mount; Code_JEDEC: MO-153; ComponentLink1Description: Manufacturer URL; ComponentLink1URL: http://www.ti.com/; ComponentLink2Description: Datasheet; ComponentLink2URL: http://www.ti.com/general/docs/lit/getliterature.tsp?genericPartNumber=DAC904&fileType=pdf; ComponentLink3Description: Package Specification; ComponentLink3URL: http://www.ti.com/litv/pdf/mpds364
footprint TI-PW28_N (SOP, 28-Leads, Body 9.7x4.4mm, Pitch 0.65mm, IPC Medium Density)
footprint TI-PW28_L (SOP, 28-Leads, Body 9.7x4.4mm, Pitch 0.65mm, IPC High Density)
footprint TI-PW28_M (SOP, 28-Leads, Body 9.7x4.4mm, Pitch 0.65mm, IPC Low Density)
pins: 1 BIT 1 (MSB) (in) "Data Bit 1 (D13), MSB", 2 BIT 2 (in) "Data Bit 2 (D12)", 3 BIT 3 (in) "Data Bit 3 (D11)", 4 BIT 4 (in) "Data Bit 4 (D10)", 5 BIT 5 (in) "Data Bit 5 (D9)", 6 BIT 6 (in) "Data Bit 6 (D8)", 7 BIT 7 (in) "Data Bit 7 (D7)", 8 BIT 8 (in) "Data Bit 8 (D6)", 9 BIT 9 (in) "Data Bit 9 (D5)", 10 BIT 10 (in) "Data Bit 10 (D4)", 11 BIT 11 (in) "Data Bit 11 (D3)", 12 BIT 12 (in) "Data Bit 12 (D2)", 13 BIT 13 (in) "Data Bit 13 (D1)", 14 BIT 14 (LSB) (in) "Data Bit 14 (D0), LSB", 15 PD (in) "Power Down, Control Input; Active HIGH. Contains internal pull-down circuit; may be left unconnected if not used.", 16 ~{INT}/EXT (in) "Reference Select Pin; Internal ( = 0) or External ( = 1) Reference Operation", 17 REFIN (io) "Reference Input/Ouput. See Applications section for further details.", 18 FSA (in) "Full-Scale Output Adjust", 19 BW "Bandwidth/Noise Reduction Pin: Bypass with 0.1uF to +VA for Optimum Performance. (Optional)", 20 AGND (power) "Analog Ground", 21 I~{OUT} (hiz) "Complementary DAC Current Output", 22 IOUT (hiz) "DAC Current Output", 23 BYP "Bypass Node: Use 0.1uF to AGND", 24 +VA (power) "Analog Supply Voltage, 2.7V to 5.5V", 25 NC "No Internal Connection", 26 DGND (power) "Digital Ground", 27 +VD (power) "Digital Supply Voltage, 2.7V to 5.5V", 28 CLK (in) "Clock Input"

## DAC904U
designator U?
14-Bit, 165 MSPS SpeedPlus(TM) DAC Scalable Current Outputs between 2 to 20 mA, -40 to 85 degC, 28-pin SOIC (DW28), Green (RoHS & no Sb/Br); Manufacturer: Texas Instruments; PartNumber: DAC904U; DAC Channels: 1; Interface: Parallel CMOS; Power Consumption(Typ)(mW): 170; Resolution(Bits): 14; Settling Time(us): 0.03; SFDR(dB): 76; SubFamily: High Speed DAC (>10MSPS); DatasheetVersion: SBAS095C; PackageVersion: 4040000-6/G, 01/2011; PackageReference: DW28; PackageDescription: 28-Pin Plastic Small Outline, Body 17.90 x 7.50 mm, Pitch 1.27 mm; Supplier 1: Digi-Key; Supplier Part Number 1: DAC904U-ND; Supplier 2: Mouser; Supplier Part Number 2: 595-DAC904U; Eco-Plan: Green (RoHS & no Sb/Br); Mounting Technology: Surface Mount; Code_JEDEC: MS-013; ComponentLink1Description: Manufacturer URL; ComponentLink1URL: http://www.ti.com/; ComponentLink2Description: Datasheet; ComponentLink2URL: http://www.ti.com/general/docs/lit/getliterature.tsp?genericPartNumber=DAC904&fileType=pdf; ComponentLink3Description: Package Specification; ComponentLink3URL: http://www.ti.com/lit/ml/mpds175a/mpds175a.pdf
footprint TI-DW28_N (SOIC, 28-Leads, Body 17.9x7.5mm, Pitch 1.27mm, IPC Medium Density)
footprint TI-DW28_L (SOIC, 28-Leads, Body 17.9x7.5mm, Pitch 1.27mm, IPC High Density)
footprint TI-DW28_M (SOIC, 28-Leads, Body 17.9x7.5mm, Pitch 1.27mm, IPC Low Density)
pins: 1 BIT 1 (MSB) (in) "Data Bit 1 (D13), MSB", 2 BIT 2 (in) "Data Bit 2 (D12)", 3 BIT 3 (in) "Data Bit 3 (D11)", 4 BIT 4 (in) "Data Bit 4 (D10)", 5 BIT 5 (in) "Data Bit 5 (D9)", 6 BIT 6 (in) "Data Bit 6 (D8)", 7 BIT 7 (in) "Data Bit 7 (D7)", 8 BIT 8 (in) "Data Bit 8 (D6)", 9 BIT 9 (in) "Data Bit 9 (D5)", 10 BIT 10 (in) "Data Bit 10 (D4)", 11 BIT 11 (in) "Data Bit 11 (D3)", 12 BIT 12 (in) "Data Bit 12 (D2)", 13 BIT 13 (in) "Data Bit 13 (D1)", 14 BIT 14 (LSB) (in) "Data Bit 14 (D0), LSB", 15 PD (in) "Power Down, Control Input; Active HIGH. Contains internal pull-down circuit; may be left unconnected if not used.", 16 ~{INT}/EXT (in) "Reference Select Pin; Internal ( = 0) or External ( = 1) Reference Operation", 17 REFIN (io) "Reference Input/Ouput. See Applications section for further details.", 18 FSA (in) "Full-Scale Output Adjust", 19 BW "Bandwidth/Noise Reduction Pin: Bypass with 0.1uF to +VA for Optimum Performance. (Optional)", 20 AGND (power) "Analog Ground", 21 I~{OUT} (hiz) "Complementary DAC Current Output", 22 IOUT (hiz) "DAC Current Output", 23 BYP "Bypass Node: Use 0.1uF to AGND", 24 +VA (power) "Analog Supply Voltage, 2.7V to 5.5V", 25 NC "No Internal Connection", 26 DGND (power) "Digital Ground", 27 +VD (power) "Digital Supply Voltage, 2.7V to 5.5V", 28 CLK (in) "Clock Input"

## DAC904U/1K
designator U?
14-Bit, 165 MSPS SpeedPlus(TM) DAC Scalable Current Outputs between 2 to 20 mA, -40 to 85 degC, 28-pin SOIC (DW28), Green (RoHS & no Sb/Br); Manufacturer: Texas Instruments; PartNumber: DAC904U/1K; DAC Channels: 1; Interface: Parallel CMOS; Power Consumption(Typ)(mW): 170; Resolution(Bits): 14; Settling Time(us): 0.03; SFDR(dB): 76; SubFamily: High Speed DAC (>10MSPS); DatasheetVersion: SBAS095C; PackageVersion: 4040000-6/G, 01/2011; PackageReference: DW28; PackageDescription: 28-Pin Plastic Small Outline, Body 17.90 x 7.50 mm, Pitch 1.27 mm; Supplier 1: Digi-Key; Supplier Part Number 1: DAC904U/1K-ND; Supplier 2: Mouser; Supplier Part Number 2: 595-DAC904U/1K; Eco-Plan: Green (RoHS & no Sb/Br); Mounting Technology: Surface Mount; Code_JEDEC: MS-013; ComponentLink1Description: Manufacturer URL; ComponentLink1URL: http://www.ti.com/; ComponentLink2Description: Datasheet; ComponentLink2URL: http://www.ti.com/general/docs/lit/getliterature.tsp?genericPartNumber=DAC904&fileType=pdf; ComponentLink3Description: Package Specification; ComponentLink3URL: http://www.ti.com/lit/ml/mpds175a/mpds175a.pdf
footprint TI-DW28_N (SOIC, 28-Leads, Body 17.9x7.5mm, Pitch 1.27mm, IPC Medium Density)
footprint TI-DW28_L (SOIC, 28-Leads, Body 17.9x7.5mm, Pitch 1.27mm, IPC High Density)
footprint TI-DW28_M (SOIC, 28-Leads, Body 17.9x7.5mm, Pitch 1.27mm, IPC Low Density)
pins: 1 BIT 1 (MSB) (in) "Data Bit 1 (D13), MSB", 2 BIT 2 (in) "Data Bit 2 (D12)", 3 BIT 3 (in) "Data Bit 3 (D11)", 4 BIT 4 (in) "Data Bit 4 (D10)", 5 BIT 5 (in) "Data Bit 5 (D9)", 6 BIT 6 (in) "Data Bit 6 (D8)", 7 BIT 7 (in) "Data Bit 7 (D7)", 8 BIT 8 (in) "Data Bit 8 (D6)", 9 BIT 9 (in) "Data Bit 9 (D5)", 10 BIT 10 (in) "Data Bit 10 (D4)", 11 BIT 11 (in) "Data Bit 11 (D3)", 12 BIT 12 (in) "Data Bit 12 (D2)", 13 BIT 13 (in) "Data Bit 13 (D1)", 14 BIT 14 (LSB) (in) "Data Bit 14 (D0), LSB", 15 PD (in) "Power Down, Control Input; Active HIGH. Contains internal pull-down circuit; may be left unconnected if not used.", 16 ~{INT}/EXT (in) "Reference Select Pin; Internal ( = 0) or External ( = 1) Reference Operation", 17 REFIN (io) "Reference Input/Ouput. See Applications section for further details.", 18 FSA (in) "Full-Scale Output Adjust", 19 BW "Bandwidth/Noise Reduction Pin: Bypass with 0.1uF to +VA for Optimum Performance. (Optional)", 20 AGND (power) "Analog Ground", 21 I~{OUT} (hiz) "Complementary DAC Current Output", 22 IOUT (hiz) "DAC Current Output", 23 BYP "Bypass Node: Use 0.1uF to AGND", 24 +VA (power) "Analog Supply Voltage, 2.7V to 5.5V", 25 NC "No Internal Connection", 26 DGND (power) "Digital Ground", 27 +VD (power) "Digital Supply Voltage, 2.7V to 5.5V", 28 CLK (in) "Clock Input"